# Altium schematic symbol library SamacSys.SchLib: 2 symbols
Pins are listed as number, name and electrical type; pins without a type are passive.

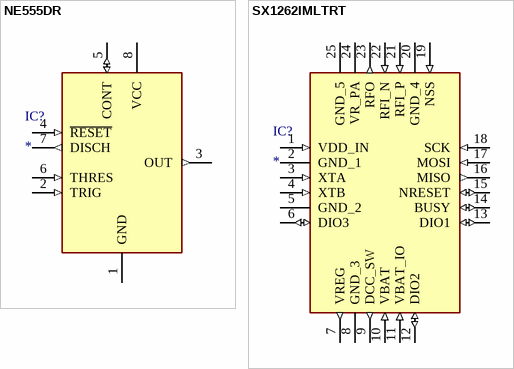
[diagram p0: symbols NE555DR to SX1262IMLTRT]

## NE555DR
designator IC?
Integrated Circuit; Manufacturer_Name: Texas Instruments; Manufacturer_Part_Number: NE555DR; Datasheet Link: http://www.ti.com/lit/ds/symlink/ne555.pdf; Height: 1.75mm; Mouser Part Number: 595-NE555DR; Mouser Price/Stock: https://www.mouser.com/Search/Refine.aspx?Keyword=595-NE555DR; RS Part Number: 1218414; RS Price/Stock: http://uk.rs-online.com/web/p/products/1218414
footprint SOIC127P600X175-8N
pins: 1 GND (power), 2 TRIG (in), 3 OUT (out), 4 ~{RESET} (in), 5 CONT (io), 6 THRES (in), 7 DISCH (out), 8 VCC (power)

## SX1262IMLTRT
designator IC?
Integrated Circuit; Manufacturer_Name: SEMTECH; Manufacturer_Part_Number: SX1262IMLTRT; Description: RF Transceiver LoRa; Datasheet Link: http://www.mouser.com/datasheet/2/761/DS_SX1261-2_V1.1-1307803.pdf; Height: 1mm; Arrow Part Number: SX1262IMLTRT; Arrow Price/Stock: https://www.arrow.com/en/products/sx1262imltrt/semtech; Mouser Part Number: 947-SX1262IMLTRT; Mouser Price/Stock: https://www.mouser.co.uk/ProductDetail/Semtech/SX1262IMLTRT?qs=XFmntM7Yc9eYt6yxTPughQ%3D%3D
footprint QFN50P400X400X100-25N-D
pins: 1 VDD_IN (in), 2 GND_1 (power), 3 XTA (in), 4 XTB (in), 5 GND_2 (power), 6 DIO3 (io), 7 VREG (out), 8 GND_3 (power), 9 DCC_SW (out), 10 VBAT (in), 11 VBAT_IO (in), 12 DIO2 (io), 13 DIO1 (io), 14 BUSY (io), 15 NRESET (io), 16 MISO (out), 17 MOSI (in), 18 SCK (in), 19 NSS (in), 20 GND_4 (power), 21 RFI_P (in), 22 RFI_N (in), 23 RFO (out), 24 VR_PA, 25 GND_5 (power)